# EAGLE library part TPA6205A1 (library BW-Active)
Low power mono audio amplifier
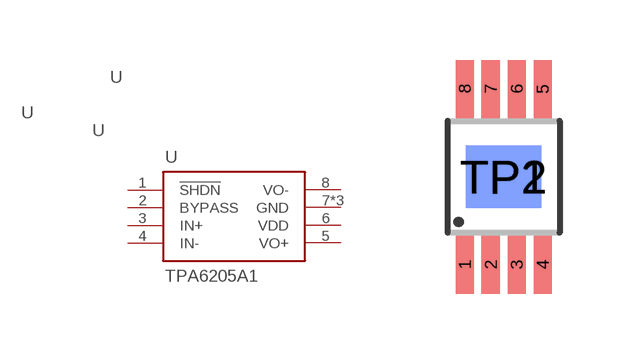
[diagram p30: symbol with the pads of MSOP8-TP; footprint MSOP8-TP]

Designator prefix U

## TPA6205A1  [MSOP8-TP]
1  !SHDN
2  BYPASS
3  IN+
4  IN-
5  VO+
6  VDD
7  GND
8  VO-
TP1  GND
TP2  GND

## Footprint MSOP8-TP (pad centres in mm)
Micro Small Outline Package Grid .65mm
smd 0.45 x 1.45: 1 -0.975,-2.2; 2 -0.325,-2.2; 3 0.325,-2.2; 4 0.975,-2.2; 5 0.975,2.2; 6 0.325,2.2; 7 -0.325,2.2; 8 -0.975,2.2
smd 1.89 x 1.57: TP1 0,0
smd 1.89 x 1.57 bottom: TP2 0,0